# Altium footprint library Relay.PcbLib: 4 footprints
Each footprint in its own frame and in the unit in brackets; x right, y up, seen from the top. Pads: shape width x height; smd on the part's side, far side on the other; paste and mask are expansions set on the pad; w line width, h text height; cw(c..) or ccw(c..) is an arc to the next point about the centre after c.
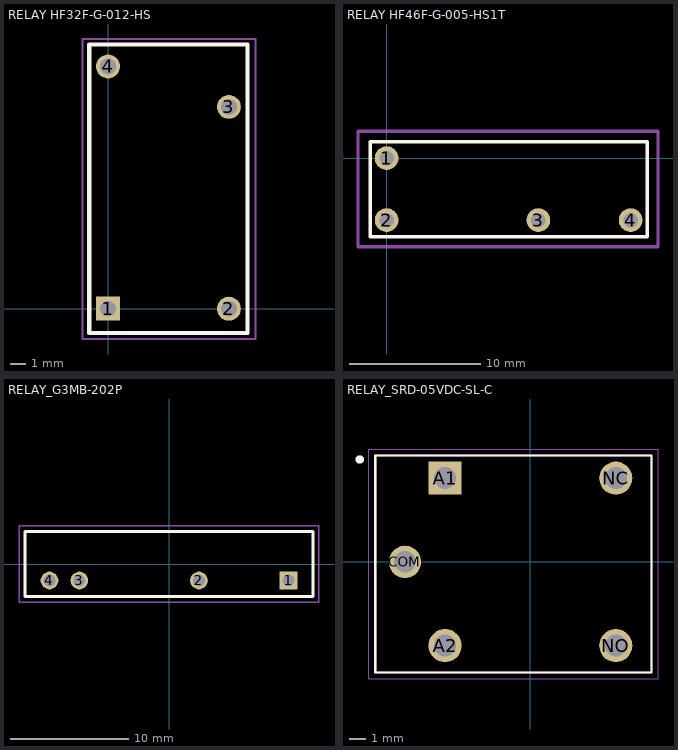
[diagram p0: the footprints below, top view; thin cyan lines are the x and y axes]

## RELAY HF32F-G-012-HS [mm]
pads (4):
  rect 1.508x1.508 hole 1: 1(0,0)
  round 1.508 hole 1: 2(7.6,0) 3(7.6,12.7) 4(0,15.24)
Top Overlay:
  lines w0.254: -1.183,-1.524 8.763,-1.524 8.763,16.622 -1.183,16.622 -1.183,-1.524
Mechanical 15:
  lines w0.127: -1.602,-1.905 9.271,-1.905 9.271,16.968 -1.602,16.968 -1.602,-1.905
3D body "RELAY_4_PIN__HONGFA_BLACK.STEP": height 15, standoff -2.3, extent -1.19,-1.38 8.81,16.62

## RELAY HF46F-G-005-HS1T [mm]
pads (4):
  round 1.8 hole 1.1: 1(0,0) 2(0,-4.7) 3(11.5,-4.7) 4(18.5,-4.7)
Top Overlay:
  lines w0.254: 19.65,-5.95 -1.25,-5.95 -1.25,1.25 19.65,1.25 ; 19.75,-5.95 19.75,1.25
Mechanical 2:
  lines w0.254: -2.172,-6.714 -2.172,2.032 20.574,2.032 20.574,-6.714 -2.172,-6.714
3D body "hf46f.STEP": height 15.04, standoff -3.67, extent -1.016,-5.786 19.384,1.214

## RELAY_G3MB-202P [mm]
pads (4):
  rect 1.508x1.508 hole 1: 1(10.16,-1.4)
  round 1.508 hole 1: 2(2.54,-1.4) 3(-7.62,-1.4) 4(-10.16,-1.4)
Top Overlay:
  lines w0.254: -12.25,-2.75 -12.25,2.75 12.25,2.75 12.25,-2.75 -12.25,-2.75
Mechanical 15:
  lines w0.127: -12.75,-3.25 -12.75,3.25 12.75,3.25 12.75,-3.25 -12.75,-3.25
3D body "step_temp.STEP": height 20.5, standoff -3.9, extent -12.25,-2.75 12.25,2.75

## RELAY_SRD-05VDC-SL-C [mm]
pads (5):
  rect 1.98x1.98 / inner round 1.98 / far side rect 1.98x1.98 hole 1.32: A1(-5.1,5)
  round 1.98 hole 1.32: A2(-5.1,-5) NC(5.1,5) NO(5.1,-5)
  round 1.935 hole 1.29: COM(-7.493,0)
Top Overlay:
  circle w0.3: c-10.2,6.119 r0.1
  lines w0.127: -9.271,-6.604 7.239,-6.604 7.239,6.35 -9.271,6.35 -9.271,-6.604
Mechanical 13:
  lines w0.127: -9.271,-6.604 7.239,-6.604 7.239,6.35 -9.271,6.35 -9.271,-6.604
Mechanical 15:
  lines w0.05: -9.652,-6.985 7.62,-6.985 7.62,6.731 -9.652,6.731 -9.652,-6.985
3D body "Relay - SRA-05VDC-CL.stp": height 14.94, standoff -3.61, extent -8.763,-5.994 6.807,5.994